# EAGLE library part MH1X7 (library Phase_2)
CONN HEADER VERT 7POS 2.54MM Manufacturer's datasheet <https://katalog.we-online.de/em/datasheet/6130xx11121.pdf>
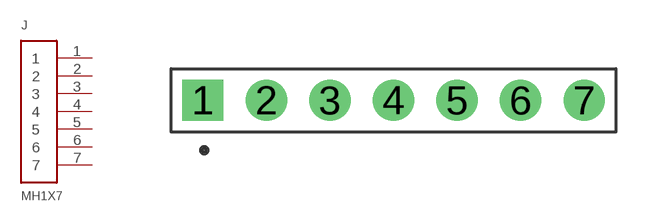
[diagram p5: symbol with the pads of 61300711121; footprint 61300711121]

Designator prefix J

## MH1X7 (CREATED_BY: PCBLayout.com; DIGI_KEY_PART_NUMBER: 732-5320-ND; MANUFACTURER: Wurth Electronics Inc.; MPN: 61300711121)  [61300711121]
1  1  pas
2  2  pas
3  3  pas
4  4  pas
5  5  pas
6  6  pas
7  7  pas

## Footprint 61300711121 (pad centres in mm)
drill 1.1 square: 1 -7.62,0
drill 1.1: 2 -5.08,0; 3 -2.54,0; 4 0,0; 5 2.54,0; 6 5.08,0; 7 7.62,0